# Altium schematic symbol library ICs-CurrentSenseAmplifiers.SchLib: 3 symbols
Pins are listed as number, name and electrical type; pins without a type are passive.

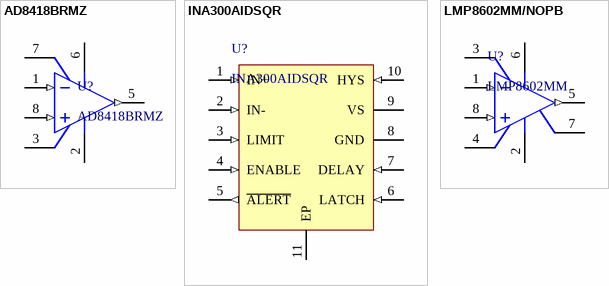
[diagram p0: symbols AD8418BRMZ to LMP8602MM/NOPB]

## AD8418BRMZ
designator U?
Current Sense Amplifiers Zero Drift ,Precision Current Sense AMP; Manufacturer: Analog Devices; PartNumber: AD8418BRMZ; Mounting Technology: Surface Mount; PackageReference: MSOP-8; PackageDescription: SOP, 8-Leads, Body 3x3mm, Pitch 0.65mm, IPC Medium Density
footprint MSOP-8 (SOP, 8-Leads, Body 3x3mm, Pitch 0.65mm, IPC Medium Density)
pins: 1 IN- (in), 2 GND (power), 3 VREF2, 5 OUT (out), 6 VS (power), 7 VREF1, 8 IN+ (in)

## INA300AIDSQR
designator U?
Current & Power Monitors & Regulators Hi-Lo Side Bi-Direct Crnt Sense Comprtr; Manufacturer: Texas Instruments; PartNumber: INA300AIDSQR; Mounting Technology: Surface Mount; PackageReference: WSON-10
footprint WSON-10 (SON, 10-Leads, Body 2.00x2.00mm, Pitch 0.40mm, Thermal Pad 1.50x0.79mm, IPC Medium Density)
pins: 1 IN+ (in), 2 IN- (in), 3 LIMIT (in), 4 ENABLE (in), 5 ~{ALERT} (out), 6 LATCH (in), 7 DELAY (in), 8 GND (power), 9 VS (power), 10 HYS (in), 11 EP (power)

## LMP8602MM/NOPB
designator U?, comment LMP8602MM
Current Sense Amplifiers 60-V, Bi-Directional, Low- or High-Side, Voltage Output Current Sensing Amplifier 8-VSSOP -40 to 125; Manufacturer: Texas Instruments; PartNumber: LMP8602MM/NOPB; Mounting Technology: Surface Mount; PackageReference: MSOP-8
footprint MSOP-8 (SOP, 8-Leads, Body 3x3mm, Pitch 0.65mm, IPC Medium Density)
pins: 1 IN- (in), 2 GND (power), 3 A1, 4 A2, 5 OUT (out), 6 VS (power), 7 OFS, 8 IN+ (in)